# Altium schematic symbol library DIODES_DZDH0401DW.SchLib: 1 symbol
Pins are listed as number, name and electrical type; pins without a type are passive.

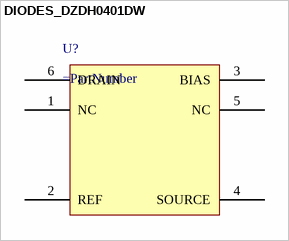
[diagram p0: symbol DIODES_DZDH0401DW]

## DIODES_DZDH0401DW
designator U?
pins: 1 NC, 2 REF, 3 BIAS, 4 SOURCE, 5 NC, 6 DRAIN